# Altium footprint library Package_SO.PcbLib: 393 footprints (part 8 of 25)
Each footprint in its own frame and in the unit in brackets; x right, y up, seen from the top. Pads: shape width x height; smd on the part's side, far side on the other; paste and mask are expansions set on the pad; w line width, h text height; cw(c..) or ccw(c..) is an arc to the next point about the centre after c.
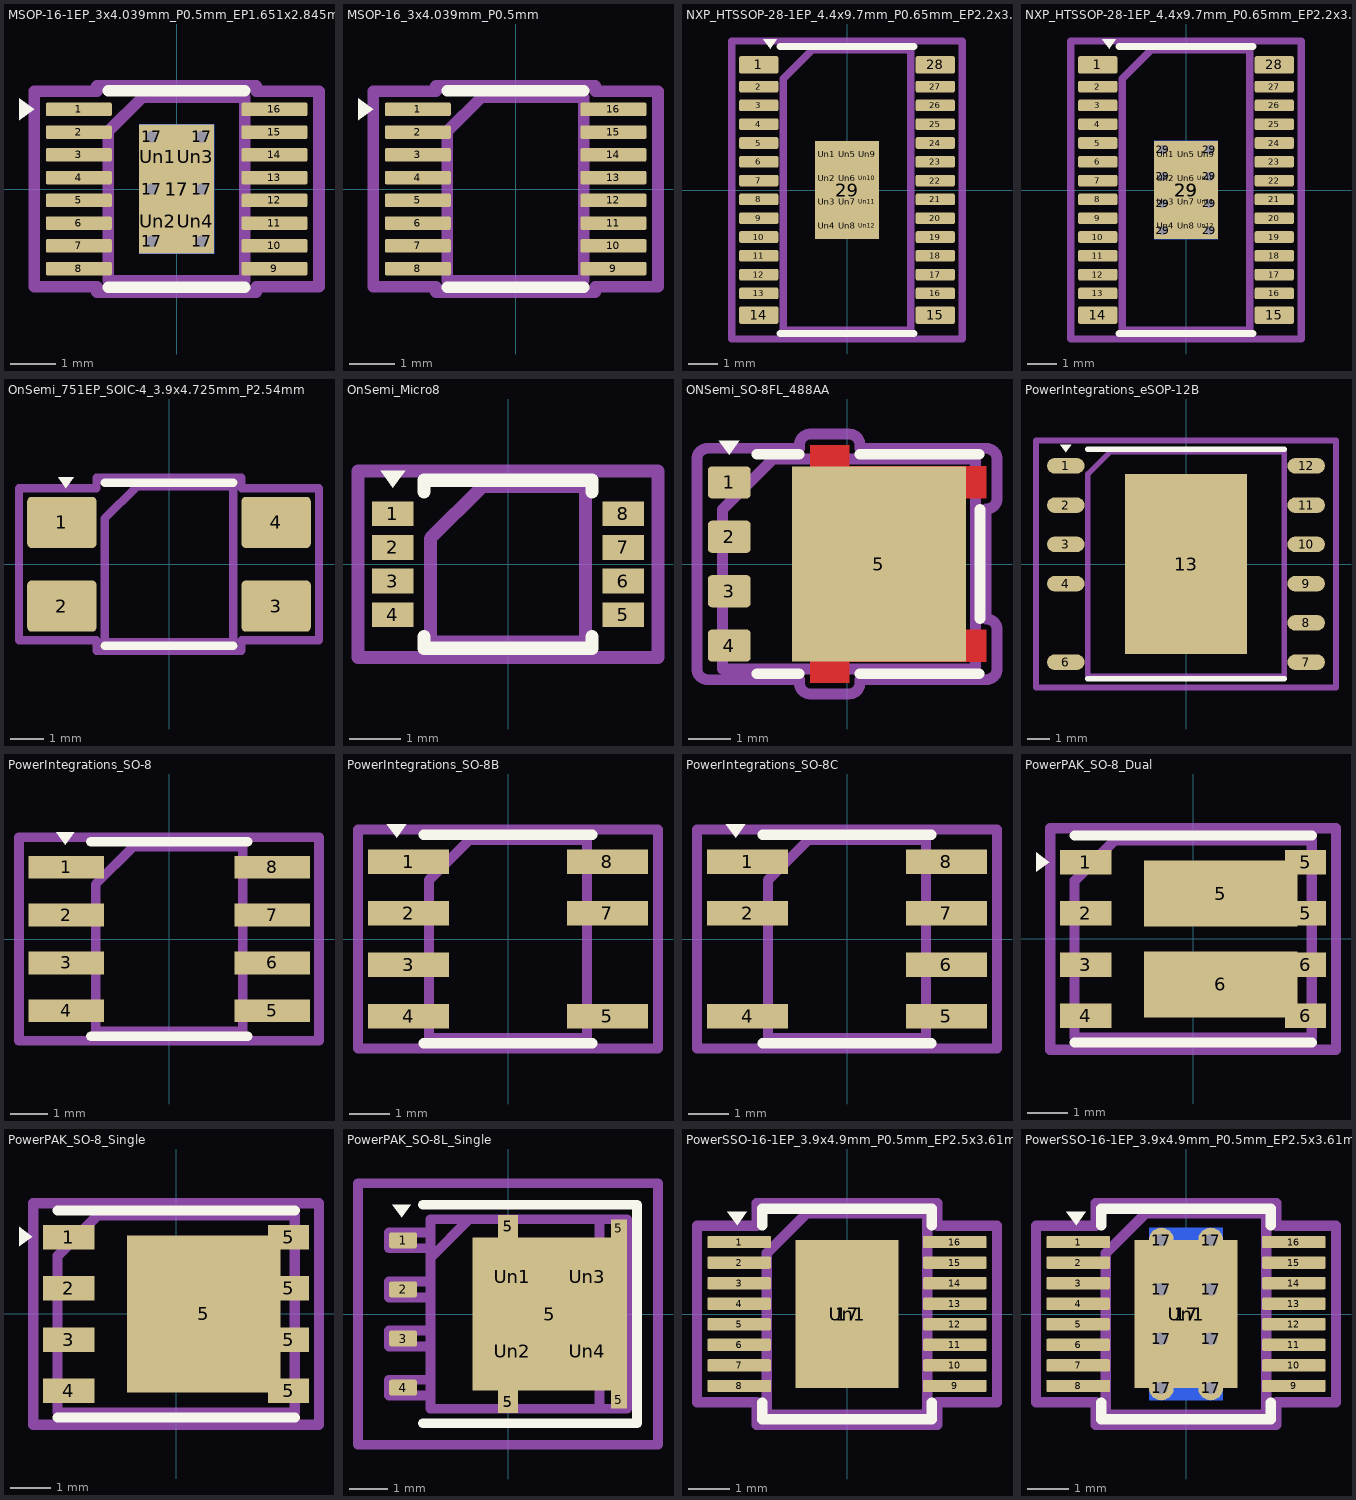
[diagram p7: the footprints below, top view; thin cyan lines are the x and y axes]

## MSOP-16-1EP_3x4.039mm_P0.5mm_EP1.651x2.845mm_ThermalVias [mm]
pads (28):
  rrect25% 1.45x0.3 smd: 1(-2.15,1.75) 2(-2.15,1.25) 3(-2.15,0.75) 4(-2.15,0.25) 5(-2.15,-0.25) 6(-2.15,-0.75) 7(-2.15,-1.25) 8(-2.15,-1.75) 9(2.15,-1.75) 10(2.15,-1.25) 11(2.15,-0.75) 12(2.15,-0.25) 13(2.15,0.25) 14(2.15,0.75) 15(2.15,1.25) 16(2.15,1.75)
  round 0.55 hole 0.25: 17(-0.55,-1.148) 17(-0.55,0) 17(-0.55,1.148) 17(0.55,-1.148) 17(0.55,0) 17(0.55,1.148)
  rect 1.651x2.845 smd: 17(0,0)
  rect 1.651x2.845 smd far side: 17(0,0)
  rrect25% 0.69x1.19 on Top Paste: Un1(-0.415,0.71) Un2(-0.415,-0.71) Un3(0.415,0.71) Un4(0.415,-0.71)
F.SilkS:
  region: -3.135,1.75 -3.465,1.51 -3.465,1.99
  lines w0.254: -1.5,-2.16 0,-2.16 1.5,-2.16 ; -1.5,2.16 0,2.16 1.5,2.16
Top Assembly:
  lines w0.254: -1.5,-2.02 1.5,-2.02 1.5,2.02 -0.75,2.02 -1.5,1.269 -1.5,-2.02
  text "'.Designator'" at -3.033,-0.628 h0.75
Top Courtyard:
  lines w0.254: -3.13,-2.15 -1.75,-2.15 -1.75,-2.27 1.75,-2.27 1.75,-2.15 3.13,-2.15 3.13,2.15 1.75,2.15 1.75,2.27 -1.75,2.27 -1.75,2.15 -3.13,2.15 -3.13,-2.15
Top Designator:
  text ".Designator" at -7.722,-0.508 h1.52

## MSOP-16_3x4.039mm_P0.5mm [mm]
pads (16):
  rrect25% 1.45x0.3 smd: 1(-2.15,1.75) 2(-2.15,1.25) 3(-2.15,0.75) 4(-2.15,0.25) 5(-2.15,-0.25) 6(-2.15,-0.75) 7(-2.15,-1.25) 8(-2.15,-1.75) 9(2.15,-1.75) 10(2.15,-1.25) 11(2.15,-0.75) 12(2.15,-0.25) 13(2.15,0.25) 14(2.15,0.75) 15(2.15,1.25) 16(2.15,1.75)
F.SilkS:
  region: -3.135,1.75 -3.465,1.51 -3.465,1.99
  lines w0.254: -1.5,-2.16 0,-2.16 1.5,-2.16 ; -1.5,2.16 0,2.16 1.5,2.16
Top Assembly:
  lines w0.254: -1.5,-2.02 1.5,-2.02 1.5,2.02 -0.75,2.02 -1.5,1.269 -1.5,-2.02
  text "'.Designator'" at -3.033,-0.628 h0.75
Top Courtyard:
  lines w0.254: -3.13,-2.15 -1.75,-2.15 -1.75,-2.27 1.75,-2.27 1.75,-2.15 3.13,-2.15 3.13,2.15 1.75,2.15 1.75,2.27 -1.75,2.27 -1.75,2.15 -3.13,2.15 -3.13,-2.15
Top Designator:
  text ".Designator" at -7.722,-0.508 h1.52

## NXP_HTSSOP-28-1EP_4.4x9.7mm_P0.65mm_EP2.2x3.4mm [mm]
pads (41):
  rrect17% 1.35x0.6 smd: 1(-3.05,4.325) 14(-3.05,-4.325) 15(3.05,-4.325) 28(3.05,4.325)
  rrect25% 1.35x0.4 smd: 2(-3.05,3.575) 3(-3.05,2.925) 4(-3.05,2.275) 5(-3.05,1.625) 6(-3.05,0.975) 7(-3.05,0.325) 8(-3.05,-0.325) 9(-3.05,-0.975) 10(-3.05,-1.625) 11(-3.05,-2.275) 12(-3.05,-2.925) 13(-3.05,-3.575) 16(3.05,-3.575) 17(3.05,-2.925) 18(3.05,-2.275) 19(3.05,-1.625) 20(3.05,-0.975) 21(3.05,-0.325) 22(3.05,0.325) 23(3.05,0.975) 24(3.05,1.625) 25(3.05,2.275) 26(3.05,2.925) 27(3.05,3.575)
  rect 2.2x3.4 smd: 29(0,0)
  rrect25% 0.6x0.7 on Top Paste: Un1(-0.7,1.23) Un2(-0.7,0.41) Un3(-0.7,-0.41) Un4(-0.7,-1.23) Un5(0,1.23) Un6(0,0.41) Un7(0,-0.41) Un8(0,-1.23) Un9(0.7,1.23) Un10(0.7,0.41) Un11(0.7,-0.41) Un12(0.7,-1.23)
F.SilkS:
  region: -2.66,4.89 -2.9,5.22 -2.42,5.22
  lines w0.254: -2.31,-4.96 0,-4.96 2.31,-4.96 ; -2.31,4.96 0,4.96 2.31,4.96
Top Assembly:
  lines w0.254: -2.2,-4.85 2.2,-4.85 2.2,4.85 -1.2,4.85 -2.2,3.85 -2.2,-4.85
  text "'.Designator'" at -4.047,-0.84 h1
Top Courtyard:
  lines w0.254: -3.98,-5.15 3.98,-5.15 3.98,5.15 -3.98,5.15 -3.98,-5.15
Top Designator:
  text ".Designator" at -7.662,-0.508 h1.52

## NXP_HTSSOP-28-1EP_4.4x9.7mm_P0.65mm_EP2.2x3.4mm_ThermalVias [mm]
pads (50):
  rrect17% 1.35x0.6 smd: 1(-3.05,4.325) 14(-3.05,-4.325) 15(3.05,-4.325) 28(3.05,4.325)
  rrect25% 1.35x0.4 smd: 2(-3.05,3.575) 3(-3.05,2.925) 4(-3.05,2.275) 5(-3.05,1.625) 6(-3.05,0.975) 7(-3.05,0.325) 8(-3.05,-0.325) 9(-3.05,-0.975) 10(-3.05,-1.625) 11(-3.05,-2.275) 12(-3.05,-2.925) 13(-3.05,-3.575) 16(3.05,-3.575) 17(3.05,-2.925) 18(3.05,-2.275) 19(3.05,-1.625) 20(3.05,-0.975) 21(3.05,-0.325) 22(3.05,0.325) 23(3.05,0.975) 24(3.05,1.625) 25(3.05,2.275) 26(3.05,2.925) 27(3.05,3.575)
  round 0.6 hole 0.3: 29(-0.8,-1.4) 29(-0.8,-0.47) 29(-0.8,0.47) 29(-0.8,1.4) 29(0.8,-1.4) 29(0.8,-0.47) 29(0.8,0.47) 29(0.8,1.4)
  rect 2.2x3.4 smd: 29(0,0)
  rect 2.2x3.4 smd far side: 29(0,0)
  rrect25% 0.6x0.7 on Top Paste: Un1(-0.7,1.23) Un2(-0.7,0.41) Un3(-0.7,-0.41) Un4(-0.7,-1.23) Un5(0,1.23) Un6(0,0.41) Un7(0,-0.41) Un8(0,-1.23) Un9(0.7,1.23) Un10(0.7,0.41) Un11(0.7,-0.41) Un12(0.7,-1.23)
F.SilkS:
  region: -2.66,4.89 -2.9,5.22 -2.42,5.22
  lines w0.254: -2.31,-4.96 0,-4.96 2.31,-4.96 ; -2.31,4.96 0,4.96 2.31,4.96
Top Assembly:
  lines w0.254: -2.2,-4.85 2.2,-4.85 2.2,4.85 -1.2,4.85 -2.2,3.85 -2.2,-4.85
  text "'.Designator'" at -4.047,-0.84 h1
Top Courtyard:
  lines w0.254: -3.98,-5.15 3.98,-5.15 3.98,5.15 -3.98,5.15 -3.98,-5.15
Top Designator:
  text ".Designator" at -7.662,-0.508 h1.52

## OnSemi_751EP_SOIC-4_3.9x4.725mm_P2.54mm [mm]
pads (4):
  rrect16% 2.1x1.55 smd: 1(-3.25,1.27) 2(-3.25,-1.27) 3(3.25,-1.27) 4(3.25,1.27)
F.SilkS:
  region: -3.125,2.305 -3.365,2.635 -2.885,2.635
  lines w0.254: -1.95,-2.472 0,-2.472 1.95,-2.472 ; -1.95,2.472 0,2.472 1.95,2.472
Top Assembly:
  lines w0.254: -1.95,-2.362 1.95,-2.362 1.95,2.362 -0.975,2.362 -1.95,1.388 -1.95,-2.362
  text "'.Designator'" at -3.969,-0.827 h0.98
Top Courtyard:
  lines w0.254: -4.55,-2.3 -2.2,-2.3 -2.2,-2.62 2.2,-2.62 2.2,-2.3 4.55,-2.3 4.55,2.3 2.2,2.3 2.2,2.62 -2.2,2.62 -2.2,2.3 -4.55,2.3 -4.55,-2.3
Top Designator:
  text ".Designator" at -7.618,-0.508 h1.52

## OnSemi_Micro8 [mm]
pads (8):
  rect 0.8x0.48 smd: 1(-2.225,0.975) 2(-2.225,0.325) 3(-2.225,-0.325) 4(-2.225,-0.975) 5(2.225,-0.975) 6(2.225,-0.325) 7(2.225,0.325) 8(2.225,0.975)
F.SilkS:
  region: -2.225,1.48 -2.465,1.81 -1.985,1.81
  lines w0.254: -1.625,-1.4 -1.625,-1.625 1.625,-1.625 1.625,-1.4 ; -1.625,1.4 -1.625,1.625 1.625,1.625 1.625,1.4
Top Assembly:
  lines w0.254: -1.5,-1.5 1.5,-1.5 1.5,1.5 -0.5,1.5 -1.5,0.5 -1.5,-1.5
  text "'.Designator'" at -2.828,-0.583 h0.7
Top Courtyard:
  lines w0.254: -2.9,-1.8 2.9,-1.8 2.9,1.8 -2.9,1.8 -2.9,-1.8
Top Designator:
  text ".Designator" at -7.618,-0.508 h1.52

## ONSemi_SO-8FL_488AA [mm]
pads (5):
  rrect25% 1x0.75 smd: 1(-2.747,1.905) 2(-2.747,0.635) 3(-2.747,-0.635) 4(-2.747,-1.905)
  rect 4.055x4.56 smd: 5(0.745,0)
F.Cu:
  region: 0.048,2.28 3.247,2.28 3.247,1.53 2.65,1.53 2.65,-1.53 3.247,-1.53 3.247,-2.28 0.048,-2.28 0.048,-2.775 -0.858,-2.775 -0.858,2.775 0.048,2.775
F.SilkS:
  region: -2.75,2.55 -2.99,2.88 -2.51,2.88
  lines w0.254: -2.103,-2.56 -1.118,-2.56 ; -2.103,2.56 -1.118,2.56 ; 0.308,-2.56 3.078,-2.56 ; 0.308,2.56 3.078,2.56 ; 3.108,-1.27 3.108,1.27
F.Paste:
  region: 0.048,2.28 3.247,2.28 3.247,1.53 2.65,1.53 2.65,-1.53 3.247,-1.53 3.247,-2.28 0.048,-2.28 0.048,-2.775 -0.858,-2.775 -0.858,2.775 0.048,2.775
F.Mask:
  region: 0.048,2.28 3.247,2.28 3.247,1.53 2.65,1.53 2.65,-1.53 3.247,-1.53 3.247,-2.28 0.048,-2.28 0.048,-2.775 -0.858,-2.775 -0.858,2.775 0.048,2.775
Top Assembly:
  lines w0.254: -2.902,-2.45 2.998,-2.45 2.998,2.45 -1.727,2.45 -2.902,1.275 -2.902,-2.45
  text "'.Designator'" at -3.999,-0.84 h1
Top Courtyard:
  lines w0.254: -3.5,-2.45 ccw(c-3.25,-2.45) -3.25,-2.7 -1.11,-2.7 -1.11,-2.78 ccw(c-0.86,-2.78) -0.86,-3.03 0.05,-3.03 ccw(c0.05,-2.78) 0.3,-2.78 0.3,-2.7 3.25,-2.7 ccw(c3.25,-2.45) 3.5,-2.45 3.5,-1.53 ccw(c3.25,-1.53) 3.25,-1.28 3.25,1.28 ccw(c3.25,1.53) 3.5,1.53 3.5,2.45 ccw(c3.25,2.45) 3.25,2.7 0.3,2.7 0.3,2.78 ccw(c0.05,2.78) 0.05,3.03 -0.86,3.03 ccw(c-0.86,2.78) -1.11,2.78 -1.11,2.7 -3.25,2.7 ccw(c-3.25,2.45) -3.5,2.45 -3.5,-2.45
Top Designator:
  text ".Designator" at -7.72,-0.508 h1.52

## PowerIntegrations_eSOP-12B [mm]
pads (12):
  rrect100% 1.7x0.71 smd: 1(-5.45,4.45) 2(-5.45,2.67) 3(-5.45,0.89) 4(-5.45,-0.89) 6(-5.45,-4.45) 7(5.45,-4.45) 8(5.45,-2.67) 9(5.45,-0.89) 10(5.45,0.89) 11(5.45,2.67) 12(5.45,4.45)
  rect 5.51x8.15 smd: 13(0,0)
F.SilkS:
  region: -5.45,5.075 -5.69,5.405 -5.21,5.405
  lines w0.254: -4.445,-5.2 4.445,-5.2 ; -4.445,5.2 4.445,5.2
Top Assembly:
  lines w0.254: -4.445,-5.08 4.445,-5.08 4.445,5.08 -3.445,5.08 -4.445,4.08 -4.445,-5.08
  text "'.Designator'" at -4.047,-0.84 h1
Top Courtyard:
  lines w0.254: -6.8,-5.6 6.8,-5.6 6.8,5.6 -6.8,5.6 -6.8,-5.6
Top Designator:
  text ".Designator" at -7.618,-0.508 h1.52

## PowerIntegrations_SO-8 [mm]
pads (8):
  rect 2x0.6 smd: 1(-2.725,1.905) 2(-2.725,0.635) 3(-2.725,-0.635) 4(-2.725,-1.905) 5(2.725,-1.905) 6(2.725,-0.635) 7(2.725,0.635) 8(2.725,1.905)
F.SilkS:
  region: -2.75,2.5 -2.99,2.83 -2.51,2.83
  lines w0.254: -2.075,-2.575 2.075,-2.575 ; -2.075,2.575 2.075,2.575
Top Assembly:
  lines w0.254: -1.95,-2.45 1.95,-2.45 1.95,2.45 -0.95,2.45 -1.95,1.45 -1.95,-2.45
  text "'.Designator'" at -4.047,-0.84 h1
Top Courtyard:
  lines w0.254: -3.98,-2.7 3.97,-2.7 3.97,2.7 -3.98,2.7 -3.98,-2.7
Top Designator:
  text ".Designator" at -7.667,-0.506 h1.52

## PowerIntegrations_SO-8B [mm]
pads (7):
  rect 2x0.6 smd: 1(-2.45,1.905) 2(-2.45,0.635) 3(-2.45,-0.635) 4(-2.45,-1.905) 5(2.45,-1.905) 7(2.45,0.635) 8(2.45,1.905)
F.SilkS:
  region: -2.75,2.5 -2.99,2.83 -2.51,2.83
  lines w0.254: -2.075,-2.575 2.075,-2.575 ; -2.075,2.575 2.075,2.575
Top Assembly:
  lines w0.254: -1.95,-2.45 1.95,-2.45 1.95,2.45 -0.95,2.45 -1.95,1.45 -1.95,-2.45
  text "'.Designator'" at -4.047,-0.84 h1
Top Courtyard:
  lines w0.254: -3.7,-2.7 3.7,-2.7 3.7,2.7 -3.7,2.7 -3.7,-2.7
Top Designator:
  text ".Designator" at -7.768,-0.506 h1.52

## PowerIntegrations_SO-8C [mm]
pads (7):
  rect 2x0.6 smd: 1(-2.45,1.905) 2(-2.45,0.635) 4(-2.45,-1.905) 5(2.45,-1.905) 6(2.45,-0.635) 7(2.45,0.635) 8(2.45,1.905)
F.SilkS:
  region: -2.75,2.5 -2.99,2.83 -2.51,2.83
  lines w0.254: -2.075,-2.575 2.075,-2.575 ; -2.075,2.575 2.075,2.575
Top Assembly:
  lines w0.254: -1.95,-2.45 1.95,-2.45 1.95,2.45 -0.95,2.45 -1.95,1.45 -1.95,-2.45
  text "'.Designator'" at -4.047,-0.84 h1
Top Courtyard:
  lines w0.254: -3.7,-2.7 3.7,-2.7 3.7,2.7 -3.7,2.7 -3.7,-2.7
Top Designator:
  text ".Designator" at -7.768,-0.506 h1.52

## PowerPAK_SO-8_Dual [mm]
pads (10):
  rect 1.27x0.61 smd: 1(-2.67,1.905) 2(-2.67,0.635) 3(-2.67,-0.635) 4(-2.67,-1.905)
  rect 3.81x1.65 smd: 5(0.69,1.13) 6(0.69,-1.13)
  rect 1.02x0.61 smd: 5(2.795,0.635) 5(2.795,1.905) 6(2.795,-1.905) 6(2.795,-0.635)
F.SilkS:
  region: -3.575,1.912 -3.905,1.672 -3.905,2.152
  lines w0.254: -2.945,-2.57 2.945,-2.57 ; -2.945,2.57 2.945,2.57
Top Assembly:
  lines w0.254: -2.945,-2.45 2.945,-2.45 2.945,2.45 -1.945,2.45 -2.945,1.45 -2.945,-2.45
  text "'.Designator'" at -4.047,-0.84 h1
Top Courtyard:
  lines w0.254: -3.55,-2.75 3.55,-2.75 3.55,2.75 -3.55,2.75 -3.55,-2.75
Top Designator:
  text ".Designator" at -7.768,-0.508 h1.52

## PowerPAK_SO-8_Single [mm]
pads (9):
  rect 1.27x0.61 smd: 1(-2.67,1.905) 2(-2.67,0.635) 3(-2.67,-0.635) 4(-2.67,-1.905)
  rect 3.81x3.91 smd: 5(0.69,0)
  rect 1.02x0.61 smd: 5(2.795,-1.905) 5(2.795,-0.635) 5(2.795,0.635) 5(2.795,1.905)
F.SilkS:
  region: -3.575,1.925 -3.905,1.685 -3.905,2.165
  lines w0.254: -2.945,-2.57 2.945,-2.57 ; -2.945,2.57 2.945,2.57
Top Assembly:
  lines w0.254: -2.945,-2.45 2.945,-2.45 2.945,2.45 -1.945,2.45 -2.945,1.45 -2.945,-2.45
  text "'.Designator'" at -4.047,-0.84 h1
Top Courtyard:
  lines w0.254: -3.55,-2.75 3.55,-2.75 3.55,2.75 -3.55,2.75 -3.55,-2.75
Top Designator:
  text ".Designator" at -7.768,-0.508 h1.52

## PowerPAK_SO-8L_Single [mm]
pads (13):
  rrect25% 0.72x0.41 smd: 1(-2.715,1.905) 2(-2.715,0.635) 3(-2.715,-0.635) 4(-2.715,-1.905)
  rect 0.51x0.585 smd: 5(0,-2.272) 5(0,2.272)
  rect 3.99x3.96 smd: 5(1.08,0)
  rect 0.41x0.47 smd: 5(2.87,-2.215) 5(2.87,2.215)
  rrect25% 1.645x1.63 on Top Paste: Un1(0.108,0.965) Un2(0.108,-0.965) Un3(2.053,0.965) Un4(2.053,-0.965)
F.SilkS:
  region: -2.75,2.5 -2.99,2.83 -2.51,2.83
  lines w0.254: -2.2,-2.825 3.335,-2.825 3.335,2.825 -2.2,2.825
Top Assembly:
  lines w0.254: -2.005,1.45 -1.005,2.45 ; 2.365,-2.45 3.075,-2.45 3.075,2.45 2.365,2.45 ; 2.365,-2.45 2.365,2.45 ; 2.365,-2.45 2.365,2.45 ; 2.365,-2.45 -2.005,-2.45 -2.005,2.45 2.365,2.45 ; -3.075,-2.11 -2.005,-2.11 -2.005,-1.7 -3.075,-1.7 -3.075,-2.11 ; -3.075,-0.84 -2.005,-0.84 -2.005,-0.43 -3.075,-0.43 -3.075,-0.84 ; -3.075,0.43 -2.005,0.43 -2.005,0.84 -3.075,0.84 -3.075,0.43 ; -3.075,1.7 -2.005,1.7 -2.005,2.11 -3.075,2.11 -3.075,1.7
  text "'.Designator'" at -4.047,-0.84 h1
Top Courtyard:
  lines w0.254: -3.88,-3.38 3.88,-3.38 3.88,3.38 -3.88,3.38 -3.88,-3.38
Top Designator:
  text ".Designator" at -7.712,-0.508 h1.52

## PowerSSO-16-1EP_3.9x4.9mm_P0.5mm_EP2.5x3.61mm [mm]
pads (18):
  rrect25% 1.55x0.3 smd: 1(-2.625,1.75) 2(-2.625,1.25) 3(-2.625,0.75) 4(-2.625,0.25) 5(-2.625,-0.25) 6(-2.625,-0.75) 7(-2.625,-1.25) 8(-2.625,-1.75) 9(2.625,-1.75) 10(2.625,-1.25) 11(2.625,-0.75) 12(2.625,-0.25) 13(2.625,0.25) 14(2.625,0.75) 15(2.625,1.25) 16(2.625,1.75)
  rect 2.5x3.61 smd: 17(0,0)
  rrect12% 2.02x2.91 on Top Paste: Un1(0,0)
F.SilkS:
  region: -2.675,2.16 -2.915,2.49 -2.435,2.49
  lines w0.254: -2.06,-2.16 -2.06,-2.56 0,-2.56 2.06,-2.56 2.06,-2.16 ; -2.06,2.16 -2.06,2.56 0,2.56 2.06,2.56 2.06,2.16
Top Assembly:
  lines w0.254: -1.95,-2.45 1.95,-2.45 1.95,2.45 -0.975,2.45 -1.95,1.475 -1.95,-2.45
  text "'.Designator'" at -3.969,-0.827 h0.98
Top Courtyard:
  lines w0.254: -3.65,-2.15 -2.2,-2.15 -2.2,-2.7 2.2,-2.7 2.2,-2.15 3.65,-2.15 3.65,2.15 2.2,2.15 2.2,2.7 -2.2,2.7 -2.2,2.15 -3.65,2.15 -3.65,-2.15
Top Designator:
  text ".Designator" at -7.768,-0.508 h1.52

## PowerSSO-16-1EP_3.9x4.9mm_P0.5mm_EP2.5x3.61mm_ThermalVias [mm]
pads (27):
  rrect25% 1.55x0.3 smd: 1(-2.625,1.75) 2(-2.625,1.25) 3(-2.625,0.75) 4(-2.625,0.25) 5(-2.625,-0.25) 6(-2.625,-0.75) 7(-2.625,-1.25) 8(-2.625,-1.75) 9(2.625,-1.75) 10(2.625,-1.25) 11(2.625,-0.75) 12(2.625,-0.25) 13(2.625,0.25) 14(2.625,0.75) 15(2.625,1.25) 16(2.625,1.75)
  round 0.6 hole 0.3: 17(-0.6,-1.8) 17(-0.6,-0.6) 17(-0.6,0.6) 17(-0.6,1.8) 17(0.6,-1.8) 17(0.6,-0.6) 17(0.6,0.6) 17(0.6,1.8)
  rect 2.5x3.61 smd: 17(0,0)
  rect 1.8x4.2 smd far side: 17(0,0)
  rrect12% 2.02x2.91 on Top Paste: Un1(0,0)
F.SilkS:
  region: -2.675,2.16 -2.915,2.49 -2.435,2.49
  lines w0.254: -2.06,-2.16 -2.06,-2.56 0,-2.56 2.06,-2.56 2.06,-2.16 ; -2.06,2.16 -2.06,2.56 0,2.56 2.06,2.56 2.06,2.16
Top Assembly:
  lines w0.254: -1.95,-2.45 1.95,-2.45 1.95,2.45 -0.975,2.45 -1.95,1.475 -1.95,-2.45
  text "'.Designator'" at -3.969,-0.827 h0.98
Top Courtyard:
  lines w0.254: -3.65,-2.15 -2.2,-2.15 -2.2,-2.7 2.2,-2.7 2.2,-2.15 3.65,-2.15 3.65,2.15 2.2,2.15 2.2,2.7 -2.2,2.7 -2.2,2.15 -3.65,2.15 -3.65,-2.15
Top Designator:
  text ".Designator" at -7.768,-0.508 h1.52